# Altium schematic symbol library Data Acquisition - Analog to Digital Converters (ADC).SchLib: 3 symbols
Pins are listed as number, name and electrical type; pins without a type are passive.

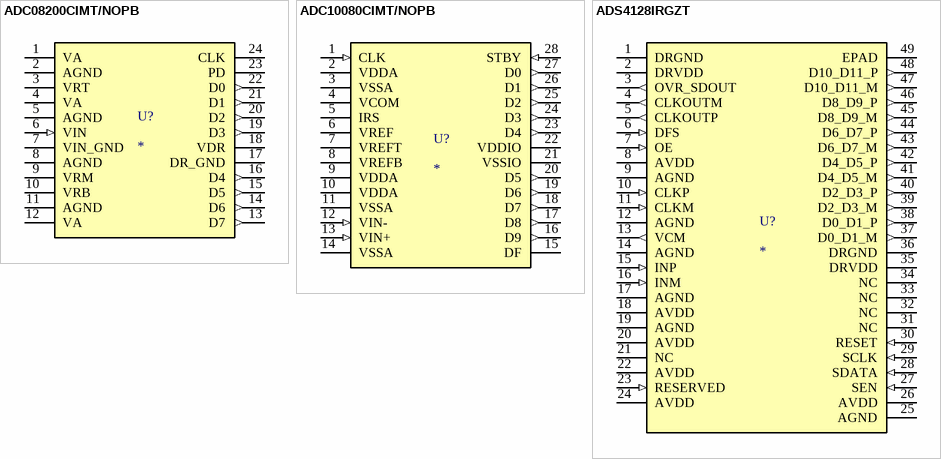
[diagram p0: symbols ADC08200CIMT/NOPB to ADS4128IRGZT]

## ADC08200CIMT/NOPB
designator U?
IC ADC 8BIT PIPELINED 24TSSOP; Supplier 1: Digi-Key; Supplier 2: Mouser; Supplier 3: Arrow Electronics; Supplier Part Number 1: ADC08200CIMT/NOPB-ND; Supplier Part Number 2: 926-ADC08200CIMTNOPB; Supplier Part Number 3: ADC08200CIMT/NOPB
footprint TI_24-TSSOP
pins: 1 VA, 2 AGND, 3 VRT, 4 VA, 5 AGND, 6 VIN (in), 7 VIN_GND, 8 AGND, 9 VRM, 10 VRB, 11 AGND, 12 VA, 13 D7 (out), 14 D6 (out), 15 D5 (out), 16 D4 (out), 17 DR_GND, 18 VDR, 19 D3 (out), 20 D2 (out), 21 D1 (out), 22 D0 (out), 23 PD, 24 CLK

## ADC10080CIMT/NOPB
designator U?
IC ADC 10BIT PIPELINED 28TSSOP; Supplier 1: Digi-Key; Supplier 2: Mouser; Supplier Part Number 1: ADC10080CIMT/NOPB-ND; Supplier Part Number 2: 926-ADC10080CIMTNOPB
footprint TI_28-TSSOP
pins: 1 CLK (in), 2 VDDA (power), 3 VSSA, 4 VCOM, 5 IRS, 6 VREF, 7 VREFT, 8 VREFB, 9 VDDA (power), 10 VDDA (power), 11 VSSA, 12 VIN- (in), 13 VIN+ (in), 14 VSSA, 15 DF, 16 D9 (out), 17 D8 (out), 18 D7 (out), 19 D6 (out), 20 D5 (out), 21 VSSIO, 22 VDDIO (power), 23 D4 (out), 24 D3 (out), 25 D2 (out), 26 D1 (out), 27 D0 (out), 28 STBY (in)

## ADS4128IRGZT
designator U?
IC ADC 12BIT PIPELINED 48VQFN; Supplier 1: Digi-Key; Supplier 2: Mouser; Supplier 3: Arrow Electronics; Supplier Part Number 1: 296-30542-1-ND; Supplier Part Number 2: 595-ADS4128IRGZT; Supplier Part Number 3: ADS4128IRGZT
footprint TI_48-VQFN (7x7)
pins: 1 DRGND (power), 2 DRVDD (power), 3 OVR_SDOUT (out), 4 CLKOUTM (out), 5 CLKOUTP (out), 6 DFS (in), 7 OE (in), 8 AVDD (power), 9 AGND (power), 10 CLKP (in), 11 CLKM (in), 12 AGND (power), 13 VCM (out), 14 AGND (power), 15 INP (in), 16 INM (in), 17 AGND (power), 18 AVDD (power), 19 AGND (power), 20 AVDD (power), 21 NC, 22 AVDD (power), 23 RESERVED (in), 24 AVDD (power), 25 AGND (power), 26 AVDD (power), 27 SEN (in), 28 SDATA (in), 29 SCLK (in), 30 RESET (in), 31 NC, 32 NC, 33 NC, 34 NC, 35 DRVDD (power), 36 DRGND (power), 37 D0_D1_M (out), 38 D0_D1_P (out), 39 D2_D3_M (out), 40 D2_D3_P (out), 41 D4_D5_M (out), 42 D4_D5_P (out), 43 D6_D7_M (out), 44 D6_D7_P (out), 45 D8_D9_M (out), 46 D8_D9_P (out), 47 D10_D11_M (out), 48 D10_D11_P (out), 49 EPAD